# Altium schematic symbol library 74xx.SchLib: 239 symbols (part 3 of 3)
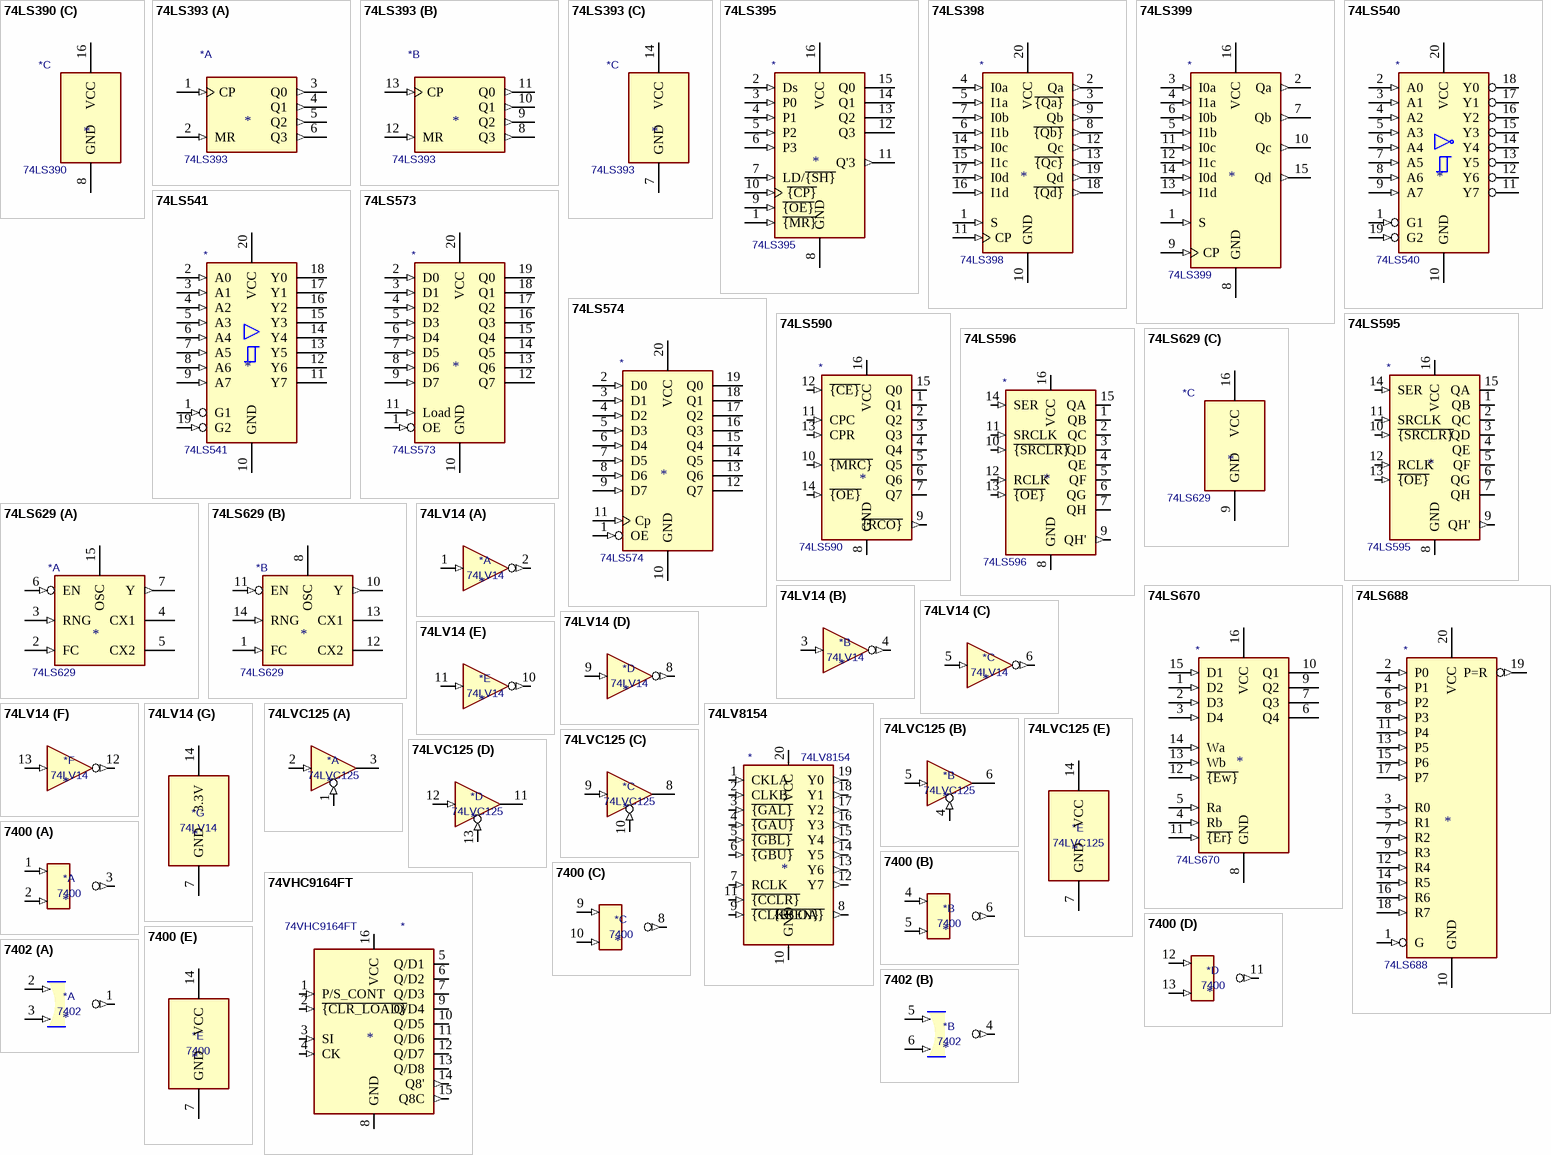
[diagram p15: symbols 74LS390 to 7402]

## 74LVC125
designator *  value 74LVC125
ki_keywords: TTL buffer 3State; ki_description: Quad buffer 3-State outputs; ki_fp_filters: DIP*W7.62mm*; Supplier: http://www.ti.com/lit/gpn/sn74LVC125
part A pins: 1 (in), 2 (in), 3 (hiz)
part B pins: 4 (in), 5 (in), 6 (hiz)
part C pins: 8 (hiz), 9 (in), 10 (in)
part D pins: 11 (hiz), 12 (in), 13 (in)
part E pins: 7 GND (power), 14 VCC (power)

## 74VHC9164FT
designator *  value 74VHC9164FT
ki_keywords: shift register universal serial parallel; ki_description: 8-bit Universal Shift Register, 2V to 5.5V, TSSOP-16; ki_fp_filters: TSSOP*4.4x5mm*P0.65mm*; Footprint: Package_SO:TSSOP-16_4.4x5mm_P0.65mm; Supplier: https://toshiba.semicon-storage.com/info/docget.jsp?did=15655&prodName=74VHC9164FT
footprint TSSOP-16_4.4x5mm_P0.65mm
pins: 1 P/S_CONT (in), 2 ~{{CLR_LOAD}} (in), 3 SI (in), 4 CK (in), 5 Q/D1 (io), 6 Q/D2 (io), 7 Q/D3 (io), 8 GND (power), 9 Q/D4 (io), 10 Q/D5 (io), 11 Q/D6 (io), 12 Q/D7 (io), 13 Q/D8 (io), 14 Q8' (out), 15 Q8C (out), 16 VCC (power)

## 7400
designator *  value 7400
ki_keywords: TTL nand 2-input; ki_description: quad 2-input NAND gate; ki_fp_filters: DIP*W7.62mm* SO14*; Supplier: http://www.ti.com/lit/gpn/sn7400
part A pins: 1 (in), 2 (in), 3 (out)
part B pins: 4 (in), 5 (in), 6 (out)
part C pins: 8 (out), 9 (in), 10 (in)
part D pins: 11 (out), 12 (in), 13 (in)
part E pins: 7 GND (power), 14 VCC (power)
1 alternate drawing of the same symbol

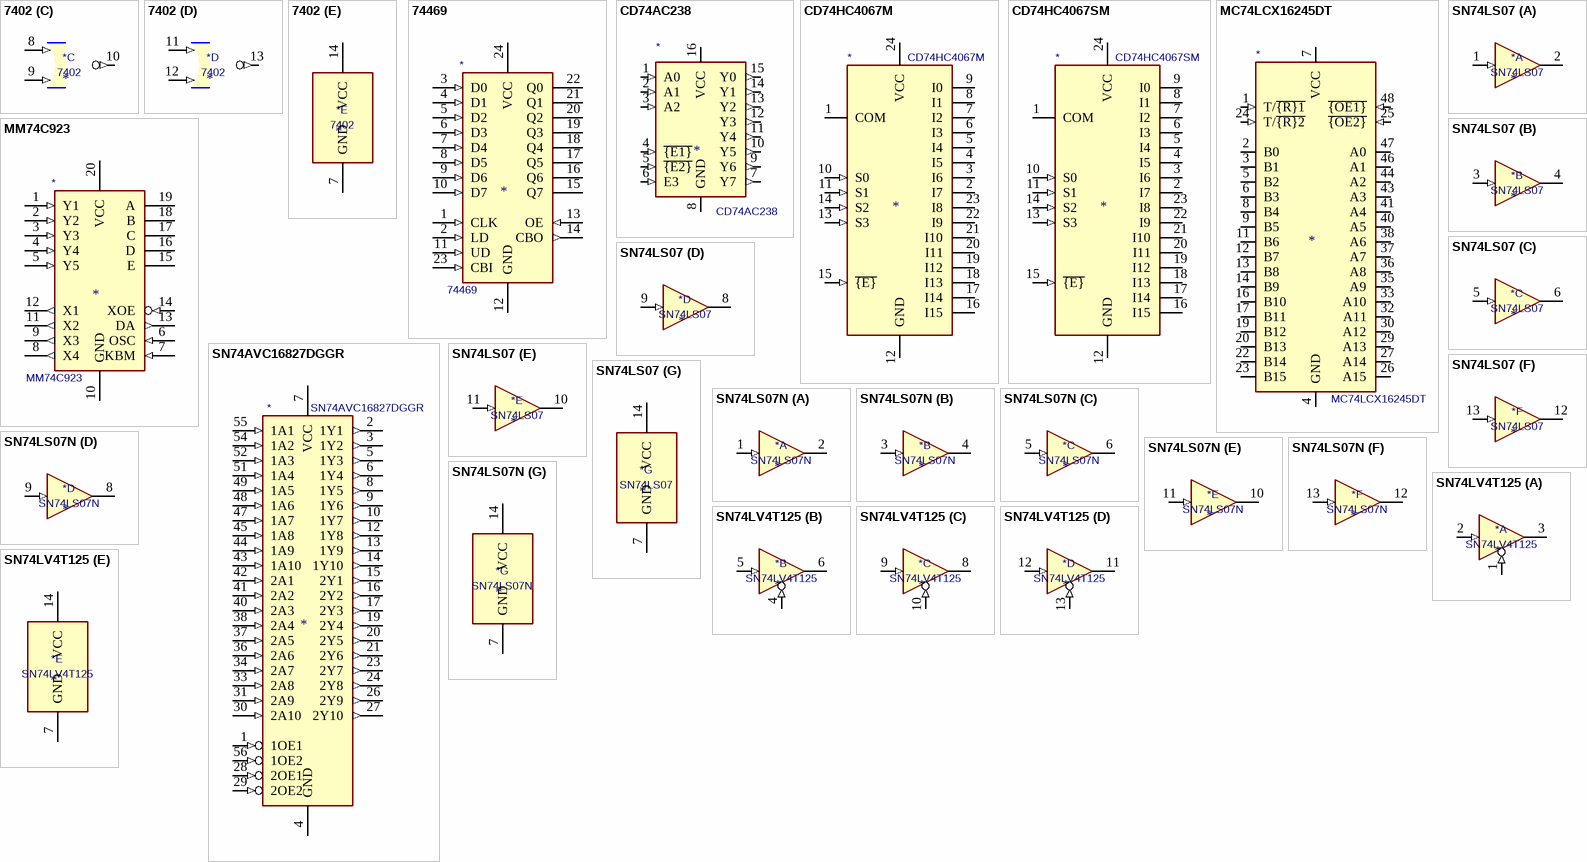
[diagram p13: symbols 7402 to SN74LV4T125]

## 7402
designator *  value 7402
ki_keywords: TTL Nor2; ki_description: quad 2-input NOR gate; ki_fp_filters: SO14* DIP*W7.62mm*; Supplier: http://www.ti.com/lit/gpn/sn7402
part A pins: 1 (out), 2 (in), 3 (in)
part B pins: 4 (out), 5 (in), 6 (in)
part C pins: 8 (in), 9 (in), 10 (out)
part D pins: 11 (in), 12 (in), 13 (out)
part E pins: 7 GND (power), 14 VCC (power)
1 alternate drawing of the same symbol

## 74469
designator *  value 74469
ki_keywords: counter; ki_description: 8-bit synchronous up/down counter, parallel load and hold capability (obsolete); ki_fp_filters: DIP?24*; Supplier: http://www.ti.com/lit/gpn/sn74469
pins: 1 CLK (in), 2 LD (in), 3 D0 (in), 4 D1 (in), 5 D2 (in), 6 D3 (in), 7 D4 (in), 8 D5 (in), 9 D6 (in), 10 D7 (in), 11 UD (in), 12 GND (power), 13 OE (in), 14 CBO (out), 15 Q7 (hiz), 16 Q6 (hiz), 17 Q5 (hiz), 18 Q4 (hiz), 19 Q3 (hiz), 20 Q2 (hiz), 21 Q1 (hiz), 22 Q0 (hiz), 23 CBI (in), 24 VCC (power)

## CD74AC238
designator *  value CD74AC238
ki_keywords: demux; ki_description: 3-to-8 line decoder/multiplexer, SOIC-16; ki_fp_filters: SOIC*3.9x9.9mm*P1.27mm*; Supplier: https://www.ti.com/lit/ds/symlink/cd74ac238.pdf
pins: 1 A0 (in), 2 A1 (in), 3 A2 (in), 4 ~{{E1}} (in), 5 ~{{E2}} (in), 6 E3 (in), 7 Y7 (out), 8 GND (power), 9 Y6 (out), 10 Y5 (out), 11 Y4 (out), 12 Y3 (out), 13 Y2 (out), 14 Y1 (out), 15 Y0 (out), 16 VCC (power)

## CD74HC4067M
designator *  value CD74HC4067M
ki_keywords: multiplexer demultiplexer mux demux; ki_description: High-Speed CMOS Logic 16-Channel Analog Multiplexer/Demultiplexer, SOIC-24; ki_fp_filters: SOIC*W*7.5x15.4mm*P1.27mm*; Footprint: Package_SO:SOIC-24W_7.5x15.4mm_P1.27mm; Supplier: http://www.ti.com/lit/ds/symlink/cd74hc4067.pdf
footprint SOIC-24W_7.5x15.4mm_P1.27mm
pins: 1 COM, 2 I7, 3 I6, 4 I5, 5 I4, 6 I3, 7 I2, 8 I1, 9 I0, 10 S0 (in), 11 S1 (in), 12 GND (power), 13 S3 (in), 14 S2 (in), 15 ~{{E}} (in), 16 I15, 17 I14, 18 I13, 19 I12, 20 I11, 21 I10, 22 I9, 23 I8, 24 VCC (power)

## CD74HC4067SM
designator *  value CD74HC4067SM
ki_keywords: multiplexer demultiplexer mux demux; ki_description: High-Speed CMOS Logic 16-Channel Analog Multiplexer/Demultiplexer, SSOP-24; ki_fp_filters: SSOP*5.3x8.2mm*P0.65mm*; Footprint: Package_SO:SSOP-24_5.3x8.2mm_P0.65mm; Supplier: http://www.ti.com/lit/ds/symlink/cd74hc4067.pdf
footprint SSOP-24_5.3x8.2mm_P0.65mm
pins: 1 COM, 2 I7, 3 I6, 4 I5, 5 I4, 6 I3, 7 I2, 8 I1, 9 I0, 10 S0 (in), 11 S1 (in), 12 GND (power), 13 S3 (in), 14 S2 (in), 15 ~{{E}} (in), 16 I15, 17 I14, 18 I13, 19 I12, 20 I11, 21 I10, 22 I9, 23 I8, 24 VCC (power)

## MC74LCX16245DT
designator *  value MC74LCX16245DT
ki_keywords: transceiver; ki_description: Low Voltage 16-Bit Bidirectional Transceiver with 5V Tolerant Inputs and Outputs, TSSOP-48; ki_fp_filters: TSSOP*6.1x12.5mm*P0.5mm*; Footprint: Package_SO:TSSOP-48_6.1x12.5mm_P0.5mm; Supplier: https://www.onsemi.com/pdf/datasheet/mc74lcx16245-d.pdf
footprint TSSOP-48_6.1x12.5mm_P0.5mm
pins: 1 T/~{{R}1} (in), 2 B0 (io), 3 B1 (io), 4 GND (power), 5 B2 (io), 6 B3 (io), 7 VCC (power), 8 B4 (io), 9 B5 (io), 10 GND hidden, 11 B6 (io), 12 B7 (io), 13 B8 (io), 14 B9 (io), 15 GND hidden, 16 B10 (io), 17 B11 (io), 18 VCC hidden, 19 B12 (io), 20 B13 (io), 21 GND hidden, 22 B14 (io), 23 B15 (io), 24 T/~{{R}2} (in), 25 ~{{OE2}} (in), 26 A15 (io), 27 A14 (io), 28 GND hidden, 29 A13 (io), 30 A12 (io), 31 VCC hidden, 32 A11 (io), 33 A10 (io), 34 GND hidden, 35 A9 (io), 36 A8 (io), 37 A7 (io), 38 A6 (io), 39 GND hidden, 40 A5 (io), 41 A4 (io), 42 VCC hidden, 43 A3 (io), 44 A2 (io), 45 GND hidden, 46 A1 (io), 47 A0 (io), 48 ~{{OE1}} (in)

## MM74C923
designator *  value MM74C923
ki_keywords: encoder; ki_description: 20-key encoder; ki_fp_filters: DIP?20*; Supplier: http://www.ti.com/lit/gpn/snMM74C923
pins: 1 Y1 (in), 2 Y2 (in), 3 Y3 (in), 4 Y4 (in), 5 Y5 (in), 6 OSC (in), 7 KBM (in), 8 X4 (out), 9 X3 (out), 10 GND (power), 11 X2 (out), 12 X1 (out), 13 DA (out), 14 XOE (in), 15 E (hiz), 16 D (hiz), 17 C (hiz), 18 B (hiz), 19 A (hiz), 20 VCC (power)

## SN74AVC16827DGGR
designator *  value SN74AVC16827DGGR
ki_keywords: Buffer Driver 3-State; ki_description: 20-Bit Buffer/Driver With 3-State Outputs; ki_fp_filters: TSSOP*6.1x14mm*P0.5mm*; Footprint: Package_SO:TSSOP-56_6.1x14mm_P0.5mm; Supplier: http://www.ti.com/lit/ds/symlink/sn74avc16827.pdf
footprint TSSOP-56_6.1x14mm_P0.5mm
pins: 1 1OE1 (in), 2 1Y1 (out), 3 1Y2 (out), 4 GND (power), 5 1Y3 (out), 6 1Y4 (out), 7 VCC (power), 8 1Y5 (out), 9 1Y6 (out), 10 1Y7 (out), 11 GND hidden, 12 1Y8 (out), 13 1Y9 (out), 14 1Y10 (out), 15 2Y1 (out), 16 2Y2 (out), 17 2Y3 (out), 18 GND hidden, 19 2Y4 (out), 20 2Y5 (out), 21 2Y6 (out), 22 VCC hidden, 23 2Y7 (out), 24 2Y8 (out), 25 GND hidden, 26 2Y9 (out), 27 2Y10 (out), 28 2OE1 (in), 29 2OE2 (in), 30 2A10 (in), 31 2A9 (in), 32 GND hidden, 33 2A8 (in), 34 2A7 (in), 35 VCC hidden, 36 2A6 (in), 37 2A5 (in), 38 2A4 (in), 39 GND hidden, 40 2A3 (in), 41 2A2 (in), 42 2A1 (in), 43 1A10 (in), 44 1A9 (in), 45 1A8 (in), 46 GND hidden, 47 1A7 (in), 48 1A6 (in), 49 1A5 (in), 50 VCC hidden, 51 1A4 (in), 52 1A3 (in), 53 GND hidden, 54 1A2 (in), 55 1A1 (in), 56 1OE2 (in)

## SN74LS07
designator *  value SN74LS07
ki_keywords: TTL hex buffer OpenCol; ki_description: Hex Buffers and Drivers With Open Collector High Voltage Outputs; ki_fp_filters: SOIC*3.9x8.7mm*P1.27mm* TSSOP*4.4x5mm*P0.65mm* DIP*W7.62mm*; Supplier: www.ti.com/lit/ds/symlink/sn74ls07.pdf
part A pins: 1 (in), 2 (oc)
part B pins: 3 (in), 4 (oc)
part C pins: 5 (in), 6 (oc)
part D pins: 8 (oc), 9 (in)
part E pins: 10 (oc), 11 (in)
part F pins: 12 (oc), 13 (in)
part G pins: 7 GND (power), 14 VCC (power)

## SN74LS07N
designator *  value SN74LS07N
ki_keywords: TTL hex buffer OpenCol; ki_description: Hex Buffers and Drivers With Open Collector High Voltage Outputs; ki_fp_filters: SOIC*3.9x8.7mm*P1.27mm* TSSOP*4.4x5mm*P0.65mm* DIP*W7.62mm*; Supplier: www.ti.com/lit/ds/symlink/sn74ls07.pdf
part A pins: 1 (in), 2 (oc)
part B pins: 3 (in), 4 (oc)
part C pins: 5 (in), 6 (oc)
part D pins: 8 (oc), 9 (in)
part E pins: 10 (oc), 11 (in)
part F pins: 12 (oc), 13 (in)
part G pins: 7 GND (power), 14 VCC (power)

## SN74LV4T125
designator *  value SN74LV4T125
ki_keywords: 3State CMOS shifter translator; ki_description: Single Supply Logic Level Translator Quad Buffer with 3-State Outputs; ki_fp_filters: DIP*W7.62mm*; Supplier: https://www.ti.com/lit/ds/symlink/sn74lv4t125.pdf
part A pins: 1 (in), 2 (in), 3 (hiz)
part B pins: 4 (in), 5 (in), 6 (hiz)
part C pins: 8 (hiz), 9 (in), 10 (in)
part D pins: 11 (hiz), 12 (in), 13 (in)
part E pins: 7 GND (power), 14 VCC (power)